# Altium footprint library 691210910002.PcbLib: 1 footprints
Each footprint in its own frame and in the unit in brackets; x right, y up, seen from the top. Pads: shape width x height; smd on the part's side, far side on the other; paste and mask are expansions set on the pad; w line width, h text height; cw(c..) or ccw(c..) is an arc to the next point about the centre after c.
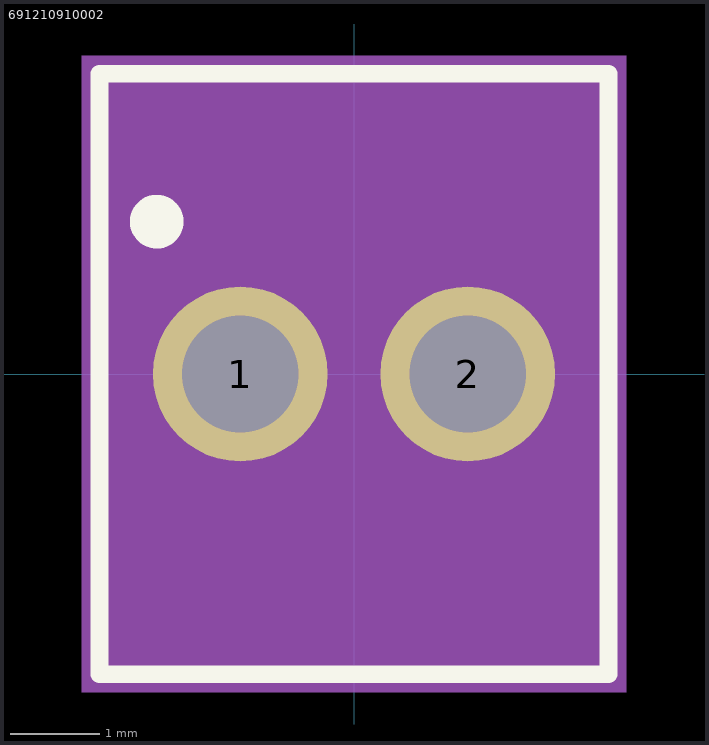
[diagram p0: the footprint, top view; thin cyan lines are the x and y axes]

## 691210910002 [mm]
pads (2):
  round 1.95 hole 1.3: 1(-1.27,0) 2(1.27,0)
Top Overlay:
  circle w0.4: c-2.2,1.7 r0.1
  lines w0.2: -2.84,-3.35 2.84,-3.35 2.84,3.35 -2.84,3.35 -2.84,-3.35
Assembly Top:
  lines w0.1: -2.74,-3.25 -2.74,3.25 2.74,3.25 2.74,-3.25 -2.74,-3.25
Courtyard Top:
  region: 3.04,-3.55 -3.04,-3.55 -3.04,3.55 3.04,3.55